# Altium footprint library FOC.PcbLib: 34 footprints (part 3 of 3)
Each footprint in its own frame and in the unit in brackets; x right, y up, seen from the top. Pads: shape width x height; smd on the part's side, far side on the other; paste and mask are expansions set on the pad; w line width, h text height; cw(c..) or ccw(c..) is an arc to the next point about the centre after c.
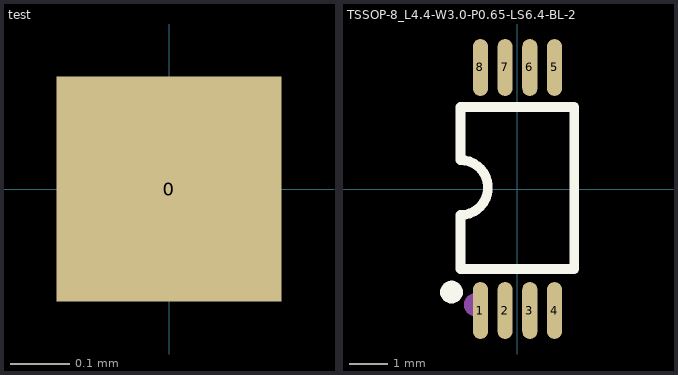
[diagram p2: the footprints below, top view; thin cyan lines are the x and y axes]

## test [mil]
pads (1):
  rect 15x15 smd: 0(0,0)

## TSSOP-8_L4.4-W3.0-P0.65-LS6.4-BL-2 [mm]
pads (8):
  oval 0.4x1.5 smd: 1(-0.975,-3.2) 2(-0.325,-3.2) 3(0.325,-3.2) 4(0.975,-3.2) 5(0.975,3.2) 6(0.325,3.2) 7(-0.325,3.2) 8(-0.975,3.2)
Top Overlay:
  lines w0.254: -1.5,-0.711 -1.5,-2.108 1.5,-2.108 1.5,2.159 ; -1.5,-0.686 ccw(c-1.5,0.038) -1.5,0.762 -1.5,2.159 1.463,2.159
  lines w0.3: -1.737,-2.565 ccw(c-1.736,-2.715) -1.735,-2.565
Mechanical 15:
  circle w0.3: c-1.112,-3.048 r0.15